# Altium footprint library GP1S094HCZ0F.PcbLib: 1 footprints
Each footprint in its own frame and in the unit in brackets; x right, y up, seen from the top. Pads: shape width x height; smd on the part's side, far side on the other; paste and mask are expansions set on the pad; w line width, h text height; cw(c..) or ccw(c..) is an arc to the next point about the centre after c.
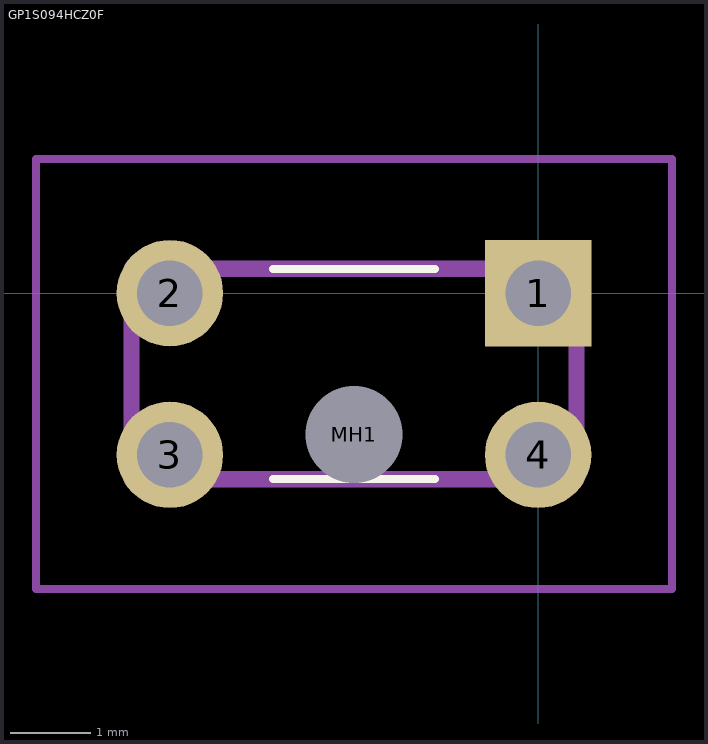
[diagram p0: the footprint, top view; thin cyan lines are the x and y axes]

## GP1S094HCZ0F [mm]
pads (5):
  rect 1.316x1.316 hole 0.81: 1(0,0)
  round 1.316 hole 0.81: 2(-4.55,0) 3(-4.55,-2) 4(0,-2)
  round 0.6 hole 1.2 unplated: MH1(-2.275,-1.75)
Top Overlay:
  lines w0.1: -3.275,-2.3 -1.275,-2.3 ; -3.275,0.3 -1.275,0.3
Mechanical 15:
  lines w0.2: -5.025,-2.3 0.475,-2.3 0.475,0.3 -5.025,0.3 -5.025,-2.3
Mechanical 20:
  lines w0.1: -6.208,-3.658 1.658,-3.658 1.658,1.658 -6.208,1.658 -6.208,-3.658